# EAGLE library part DMMT3906 (library 6301-temp-sensor-rev1)
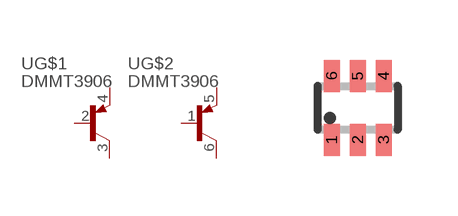
[diagram p7: symbol with the pads of SOT363_PHILIPS; footprint SOT363_PHILIPS]

Designator prefix -; gates G$1=PNP G$2=PNP

## DMMT3906  [SOT363_PHILIPS]
1  G$2:B  pas
2  G$1:B  pas
3  G$1:C  pas
4  G$1:E  pas
5  G$2:E  pas
6  G$2:C  pas

## Footprint SOT363_PHILIPS (pad centres in mm)
Small Outline Transistor; 6 leads Philips Semiconductors, SOT363.pdf
smd 0.4 x 0.8: 1 -0.65,-0.8; 2 0,-0.8; 3 0.65,-0.8; 4 0.65,0.8; 5 0,0.8; 6 -0.65,0.8